# EAGLE library part 34980A (library GPIB_epccs)
Agilent 34980A Multifunction Switch/Measure Unit
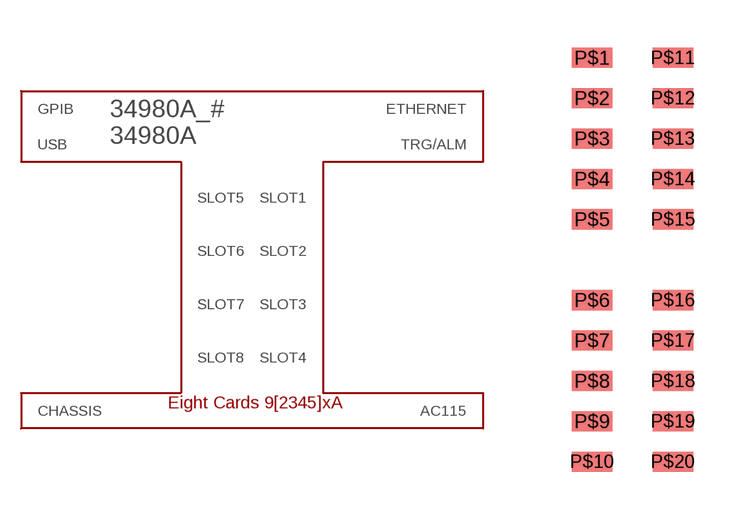
[diagram p7: symbol with the pads of POS20; footprint POS20]

Designator prefix 34980A_#

## 34980A  [POS20]
P$1  AC115
P$2  CHASSIS
P$3  ETHERNET
P$4  GPIB
P$5  SLOT1
P$6  SLOT2
P$7  SLOT3
P$8  SLOT4
P$9  SLOT5
P$10  SLOT6
P$11  SLOT7
P$12  SLOT8
P$13  TRG/ALM
P$14  USB

## Footprint POS20 (pad centres in mm)
smd 1.27 x 0.635: P$1 -1.27,6.35; P$2 -1.27,5.08; P$3 -1.27,3.81; P$4 -1.27,2.54; P$5 -1.27,1.27; P$6 -1.27,-1.27; P$7 -1.27,-2.54; P$8 -1.27,-3.81; P$9 -1.27,-5.08; P$10 -1.27,-6.35; P$11 1.27,6.35; P$12 1.27,5.08; P$13 1.27,3.81; P$14 1.27,2.54; P$15 1.27,1.27; P$16 1.27,-1.27; P$17 1.27,-2.54; P$18 1.27,-3.81; P$19 1.27,-5.08; P$20 1.27,-6.35